# EAGLE library part 690357102072 (library Eagle_BOARD-TO-BOARD_CONNECTORS (rev18b))
WR-MM Male Connector with Polarization, 20 Pins=>Code : Con_BTB_MM_Male_THT_690357102072 <http://katalog.we-online.de/media/thumbs2/eican/thb_Con_BTB_MM_Male_THT_69035710xx72_pf2.jpg> Details see: http://katalog.we-online.de/en/em/6903_5710_xx_72 Created 2014-06-04, Karrer Zheng 2014 (C) Würth Elektronik
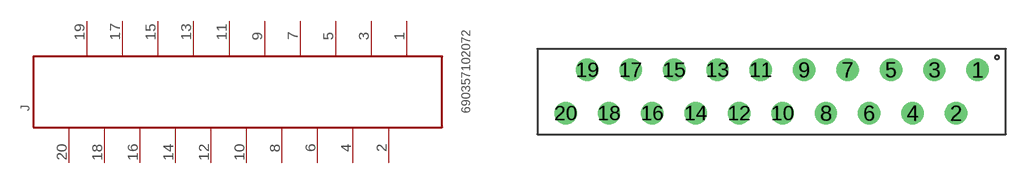
[diagram p312: symbol with the pads of 690357102072; footprint 690357102072]

Designator prefix J

## 690357102072  [690357102072]
1  20  pas
2  19  pas
3  18  pas
4  17  pas
5  16  pas
6  15  pas
7  14  pas
8  13  pas
9  12  pas
10  11  pas
11  10  pas
12  9  pas
13  8  pas
14  7  pas
15  6  pas
16  5  pas
17  4  pas
18  3  pas
19  2  pas
20  1  pas

## Footprint 690357102072 (pad centres in mm)
WR-MM Male Connector with Polarization, 20 Pins
drill 0.8: 1 12.065,1.27; 2 10.795,-1.27; 3 9.525,1.27; 4 8.255,-1.27; 5 6.985,1.27; 6 5.715,-1.27; 7 4.445,1.27; 8 3.175,-1.27; 9 1.905,1.27; 10 0.635,-1.27; 11 -0.635,1.27; 12 -1.905,-1.27; 13 -3.175,1.27; 14 -4.445,-1.27; 15 -5.715,1.27; 16 -6.985,-1.27; 17 -8.255,1.27; 18 -9.525,-1.27; 19 -10.795,1.27; 20 -12.065,-1.27